# Altium schematic symbol library NTC.SchLib: 1 symbol
Pins are listed as number, name and electrical type; pins without a type are passive.

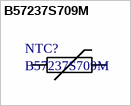
[diagram p0: symbol B57237S709M]

## B57237S709M
designator NTC?
Thermistor, ICL NTC, 7 ohm; Supplier 1: Mouser; Supplier 2: Octopart; Supplier Part Number 1: 871-B57237S709M; Supplier Part Number 2: Farnell - 9754180
footprint B57237S709M (Thermistor, ICL NTC, 7 ohm)
pins: 1, 2